# Altium footprint library mic5528.PcbLib: 3 footprints
Each footprint in its own frame and in the unit in brackets; x right, y up, seen from the top. Pads: shape width x height; smd on the part's side, far side on the other; paste and mask are expansions set on the pad; w line width, h text height; cw(c..) or ccw(c..) is an arc to the next point about the centre after c.
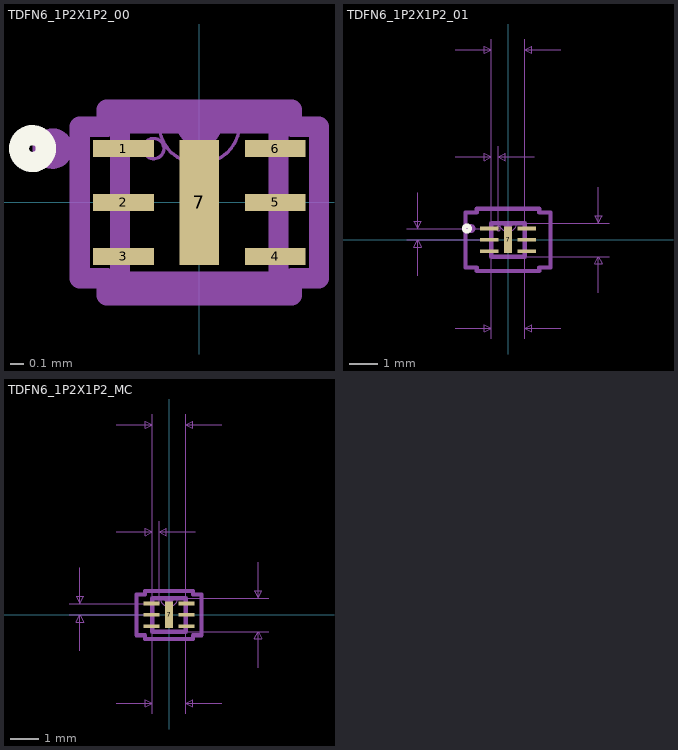
[diagram p0: the footprints below, top view; thin cyan lines are the x and y axes]

## TDFN6_1P2X1P2_00 [mil]
pads (7):
  rect 18x5 smd: 1(-22.5,16) 2(-22.5,0) 3(-22.5,-16) 4(22.5,-16) 5(22.5,0) 6(22.5,16)
  rect 11.81x37.01 smd: 7(0,0)
Top Overlay:
  circle w6: c-49.5,16 r4
Outline:
  circle w1: c-13.5,16 r3
  lines w1: -12,23.5 ccw(c0,23.5) 12,23.5 ; -23.5,-23.5 23.5,-23.5 23.5,23.5 -23.5,23.5 -23.5,-23.5
Courtyard Bottom:
  circle w6: c-43.5,16 r3
  lines w6: -3.92,23.5 ccw(c0,23.5) 3.92,23.5 ; -35.5,-22.5 -35.5,22.5 -27.5,22.5 -27.5,27.5 27.5,27.5 27.5,22.5 35.5,22.5 35.5,-22.5 27.5,-22.5 27.5,-27.5 -27.5,-27.5 -27.5,-22.5 -35.5,-22.5 ; -23.5,-23.5 -23.5,23.5 23.5,23.5 23.5,-23.5 -23.5,-23.5
3D body: height 22.09, standoff 0, extent -23.5,-23.5 23.51,23.51

## TDFN6_1P2X1P2_01 [mil]
pads (7):
  rect 26x5 all layers, no hole: 1(-26.5,16) 2(-26.5,0) 3(-26.5,-16) 4(26.5,-16) 5(26.5,0) 6(26.5,16)
  rect 11.81x37.01 all layers, no hole: 7(0,0)
Top Overlay:
  circle w6: c-57.5,16 r4
Outline:
  circle w1: c-13.5,16 r3
  lines w1: -12,23.5 ccw(c0,23.5) 12,23.5 ; -23.5,-23.5 -23.5,23.5 23.5,23.5 23.5,-23.5 -23.5,-23.5
Courtyard Bottom:
  circle w6: c-51.5,16 r3
  lines w1: -141.5,0 -26.5,0 ; -141.5,16 -26.5,16 ; -126.5,-50 -126.5,0 ; -126.5,66 -126.5,16 ; -73.5,-123.5 -23.5,-123.5 ; -73.5,116 -23.5,116 ; -73.5,266 -23.5,266 ; -23.5,-138.5 -23.5,-23.5 ; -23.5,131 -23.5,16 -23.5,281 ; -13.5,16 -13.5,131 ; 23.5,-138.5 23.5,-23.5 141.5,-23.5 ; 23.5,16 23.5,281 ; 23.5,23.5 141.5,23.5 ; 36.5,116 -13.5,116 ; 73.5,-123.5 23.5,-123.5 ; 73.5,266 23.5,266 ; 126.5,-73.5 126.5,-23.5 ; 126.5,73.5 126.5,23.5 ; -126.5,0 -121.5,-10 -131.5,-10 -126.5,0 ; -126.5,16 -121.5,26 -131.5,26 -126.5,16 ; -23.5,-123.5 -33.5,-128.5 -33.5,-118.5 -23.5,-123.5 ; -23.5,116 -33.5,111 -33.5,121 -23.5,116 ; -23.5,266 -33.5,261 -33.5,271 -23.5,266 ; -13.5,116 -3.5,111 -3.5,121 -13.5,116 ; 23.5,-123.5 33.5,-128.5 33.5,-118.5 23.5,-123.5 ; 23.5,266 33.5,261 33.5,271 23.5,266 ; 126.5,-23.5 131.5,-33.5 121.5,-33.5 126.5,-23.5 ; 126.5,23.5 131.5,33.5 121.5,33.5 126.5,23.5
  lines w6: -3.92,23.5 ccw(c0,23.5) 3.92,23.5 ; -59.5,-38.5 -43.5,-38.5 -43.5,-43.5 43.5,-43.5 43.5,-38.5 59.5,-38.5 59.5,38.5 43.5,38.5 43.5,43.5 -43.5,43.5 -43.5,38.5 -59.5,38.5 -59.5,-38.5 ; -23.5,-23.5 23.5,-23.5 23.5,23.5 -23.5,23.5 -23.5,-23.5
  text "0.047in/1.194mm" at 0,-143.5 h15.62
  text "0.047in/1.194mm" at 146.5,0 h15.62
  text "0.016in/0.406mm" at -146.5,8 h15.62
  text "0.01in/0.254mm" at -18.5,136 h15.62
  text "0.047in/1.194mm" at 0,286 h15.62
  text "Alt 2 Padstyle: OX90Y60D30P" at 0,-583.5 h31.25
  text "Alt 1 Padstyle: OX60Y90D30P" at 0,-523.5 h31.25
  text "Heat Tab Padstyle: RX11p81Y37p01D0T" at 0,-403.5 h31.25
  text "Default Padstyle: RX26Y5D0T" at 0,-343.5 h31.25

## TDFN6_1P2X1P2_MC [mil]
pads (7):
  rect 22x5 all layers, no hole: 1(-24.5,16) 2(-24.5,0) 3(-24.5,-16) 4(24.5,-16) 5(24.5,0) 6(24.5,16)
  rect 11.81x37.01 all layers, no hole: 7(0,0)
Outline:
  lines w1: -12,23.5 ccw(c0,23.5) 12,23.5 ; -23.5,-23.5 -23.5,23.5 23.5,23.5 23.5,-23.5 -23.5,-23.5
Courtyard Bottom:
  lines w1: -139.5,0 -24.5,0 ; -139.5,16 -24.5,16 ; -124.5,-50 -124.5,0 ; -124.5,66 -124.5,16 ; -73.5,-123.5 -23.5,-123.5 ; -73.5,116 -23.5,116 ; -73.5,266 -23.5,266 ; -23.5,-138.5 -23.5,-23.5 ; -23.5,131 -23.5,16 -23.5,281 ; -13.5,16 -13.5,131 ; 23.5,-138.5 23.5,-23.5 139.5,-23.5 ; 23.5,16 23.5,281 ; 23.5,23.5 139.5,23.5 ; 36.5,116 -13.5,116 ; 73.5,-123.5 23.5,-123.5 ; 73.5,266 23.5,266 ; 124.5,-73.5 124.5,-23.5 ; 124.5,73.5 124.5,23.5 ; -124.5,0 -119.5,-10 -129.5,-10 -124.5,0 ; -124.5,16 -119.5,26 -129.5,26 -124.5,16 ; -23.5,-123.5 -33.5,-128.5 -33.5,-118.5 -23.5,-123.5 ; -23.5,116 -33.5,111 -33.5,121 -23.5,116 ; -23.5,266 -33.5,261 -33.5,271 -23.5,266 ; -13.5,116 -3.5,111 -3.5,121 -13.5,116 ; 23.5,-123.5 33.5,-128.5 33.5,-118.5 23.5,-123.5 ; 23.5,266 33.5,261 33.5,271 23.5,266 ; 124.5,-23.5 129.5,-33.5 119.5,-33.5 124.5,-23.5 ; 124.5,23.5 129.5,33.5 119.5,33.5 124.5,23.5
  lines w6: -3.92,23.5 ccw(c0,23.5) 3.92,23.5 ; -45.5,-28.5 -33.5,-28.5 -33.5,-33.5 33.5,-33.5 33.5,-28.5 45.5,-28.5 45.5,28.5 33.5,28.5 33.5,33.5 -33.5,33.5 -33.5,28.5 -45.5,28.5 -45.5,-28.5 ; -23.5,-23.5 23.5,-23.5 23.5,23.5 -23.5,23.5 -23.5,-23.5
  text "0.047in/1.194mm" at 0,-143.5 h15.62
  text "0.047in/1.194mm" at 144.5,0 h15.62
  text "0.016in/0.406mm" at -144.5,8 h15.62
  text "0.01in/0.254mm" at -18.5,136 h15.62
  text "0.047in/1.194mm" at 0,286 h15.62
  text "Alt 2 Padstyle: OX90Y60D30P" at 0,-583.5 h31.25
  text "Alt 1 Padstyle: OX60Y90D30P" at 0,-523.5 h31.25
  text "Heat Tab Padstyle: RX11p81Y37p01D0T" at 0,-403.5 h31.25
  text "Default Padstyle: RX22Y5D0T" at 0,-343.5 h31.25